# EAGLE library part PIC18F25K80 (library Custom_Library)
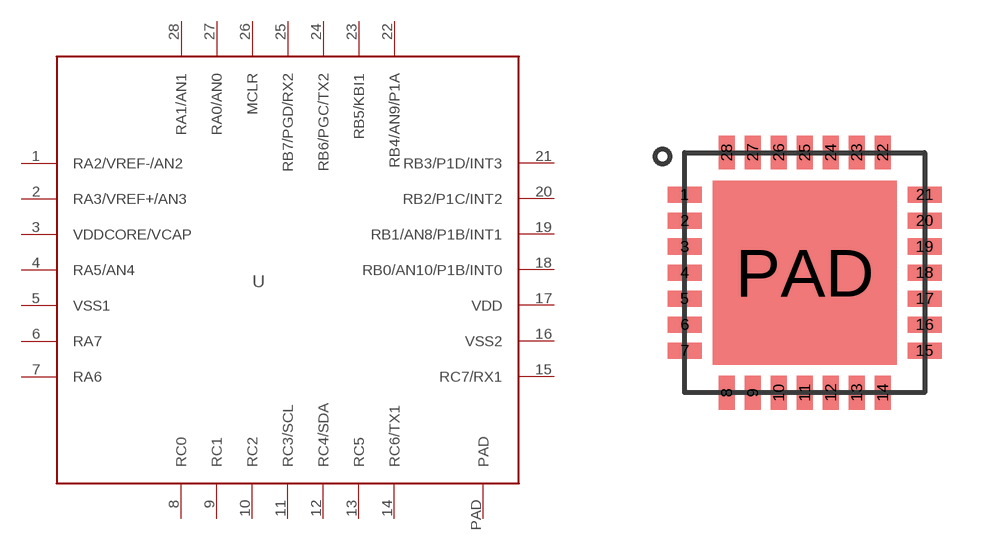
[diagram p29: symbol with the pads of QFN-S_28; footprint QFN-S_28]

Designator prefix U

## PIC18F25K80  [QFN-S_28]
1  RA2/VREF-/AN2
2  RA3/VREF+/AN3
3  VDDCORE/VCAP
4  RA5/AN4
5  VSS1
6  RA7
7  RA6
8  RC0
9  RC1
10  RC2
11  RC3/SCL
12  RC4/SDA
13  RC5
14  RC6/TX1
15  RC7/RX1
16  VSS2
17  VDD
18  RB0/AN10/P1B/INT0
19  RB1/AN8/P1B/INT1
20  RB2/P1C/INT2
21  RB3/P1D/INT3
22  RB4/AN9/P1A
23  RB5/KBI1
24  RB6/PGC/TX2
25  RB7/PGD/RX2
26  MCLR
27  RA0/AN0
28  RA1/AN1
PAD  PAD

## Footprint QFN-S_28 (pad centres in mm)
smd 0.85 x 0.4: 1 -3,1.95; 2 -3,1.3; 3 -3,0.65; 4 -3,0; 5 -3,-0.65; 6 -3,-1.3; 7 -3,-1.95; 15 3,-1.95; 16 3,-1.3; 17 3,-0.65; 18 3,0; 19 3,0.65; 20 3,1.3; 21 3,1.95
smd 0.4 x 0.85: 8 -1.95,-3; 9 -1.3,-3; 10 -0.65,-3; 11 0,-3; 12 0.65,-3; 13 1.3,-3; 14 1.95,-3; 22 1.95,3; 23 1.3,3; 24 0.65,3; 25 0,3; 26 -0.65,3; 27 -1.3,3; 28 -1.95,3
smd 4.6 x 4.6: PAD 0,0